# EAGLE library part CELLPHONE_NOKIA_5100 (library tft_1.8)
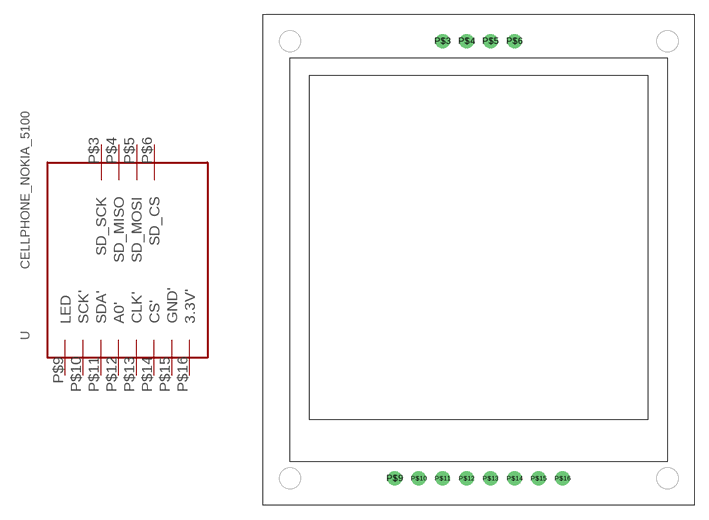
[diagram p0: symbol with the pads of CELLPHONE_NOKIA_5100_SPARKFUN; footprint CELLPHONE_NOKIA_5100_SPARKFUN]

Designator prefix -

## CELLPHONE_NOKIA_5100  [CELLPHONE_NOKIA_5100_SPARKFUN]
P$3  SD_SCK
P$4  SD_MISO
P$5  SD_MOSI
P$6  SD_CS
P$9  LED
P$10  SCK'
P$11  SDA'
P$12  A0'
P$13  CLK'
P$14  CS'
P$15  GND'
P$16  3.3V'

## Footprint CELLPHONE_NOKIA_5100_SPARKFUN (pad centres in mm)
drill 1: P$3 -3.81,26.35; P$4 -1.27,26.35; P$5 1.27,26.35; P$6 3.81,26.35; P$9 -8.89,-20; P$10 -6.35,-20; P$11 -3.81,-20; P$12 -1.27,-20; P$13 1.27,-20; P$14 3.81,-20; P$15 6.35,-20; P$16 8.89,-20